# EAGLE library part MCP6V02 (library my_components)
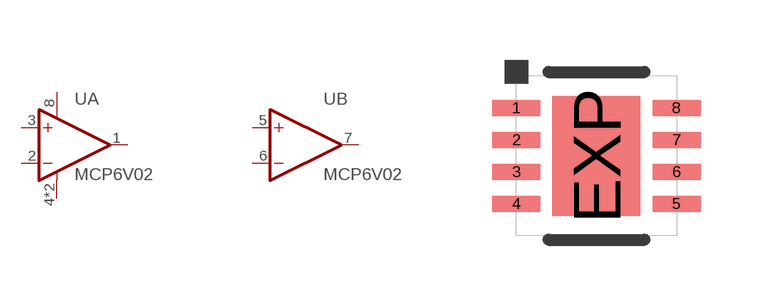
[diagram p4: symbol with the pads of DFN-4X4; footprint DFN-4X4]

Designator prefix -; gates A=OPAMP B=OPAMP2

## MCP6V02  [DFN-4X4]
1  A:OUT  out
2  A:-IN  in
3  A:+IN  in
4  A:V-
5  B:+IN  in
6  B:-IN  in
7  B:OUT  out
8  A:V+
EXP  A:V-

## Footprint DFN-4X4 (pad centres in mm)
smd 1.2 x 0.4: 1 -2,1.2; 2 -2,0.4; 3 -2,-0.4; 4 -2,-1.2; 5 2,-1.2; 6 2,-0.4; 7 2,0.4; 8 2,1.2
smd 2.2 x 3: EXP 0,0